# EAGLE library part AQM1248A (library ProjectOnly6)
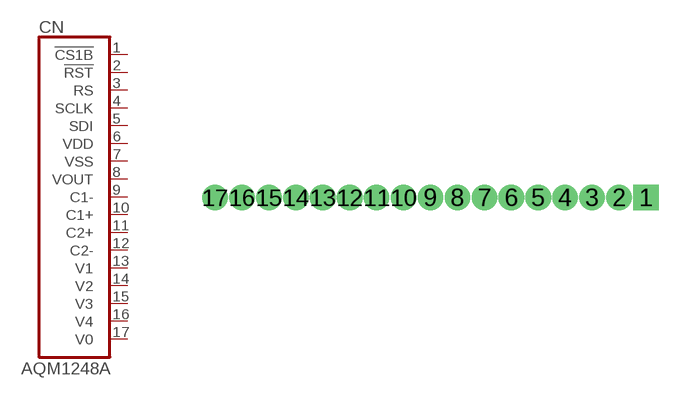
[diagram p12: symbol with the pads of AQM1248A; footprint AQM1248A]

Designator prefix CN

## AQM1248A  [AQM1248A]
1  !CS1B
2  !RST
3  RS
4  SCLK
5  SDI
6  VDD
7  VSS
8  VOUT
9  C1-
10  C1+
11  C2+
12  C2-
13  V1
14  V2
15  V3
16  V4
17  V0

## Footprint AQM1248A (pad centres in mm)
drill 0.7 pad 1.1 square: 1 10.16,-0.2
drill 0.7 pad 1.1: 2 8.89,-0.2; 3 7.62,-0.2; 4 6.35,-0.2; 5 5.08,-0.2; 6 3.81,-0.2; 7 2.54,-0.2; 8 1.27,-0.2; 9 0,-0.2; 10 -1.27,-0.2; 11 -2.54,-0.2; 12 -3.81,-0.2; 13 -5.08,-0.2; 14 -6.35,-0.2; 15 -7.62,-0.2; 16 -8.89,-0.2; 17 -10.16,-0.2